# Altium schematic symbol library Trans,NPN,40V,200mA,Thru.Schlib: 1 symbol
Pins are listed as number, name and electrical type; pins without a type are passive.

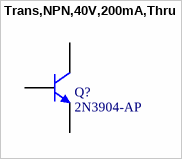
[diagram p0: symbol Trans,NPN,40V,200mA,Thru]

## Trans,NPN,40V,200mA,Thru
designator Q?, comment 2N3904-AP
Bipolar (BJT) Transistor NPN 40V 200mA 250MHz 600mW Through Hole TO-92
pins: 1 C, 2 B, 3 E